# Altium schematic symbol library 常用集成电路.SchLib: 294 symbols (part 5 of 5)
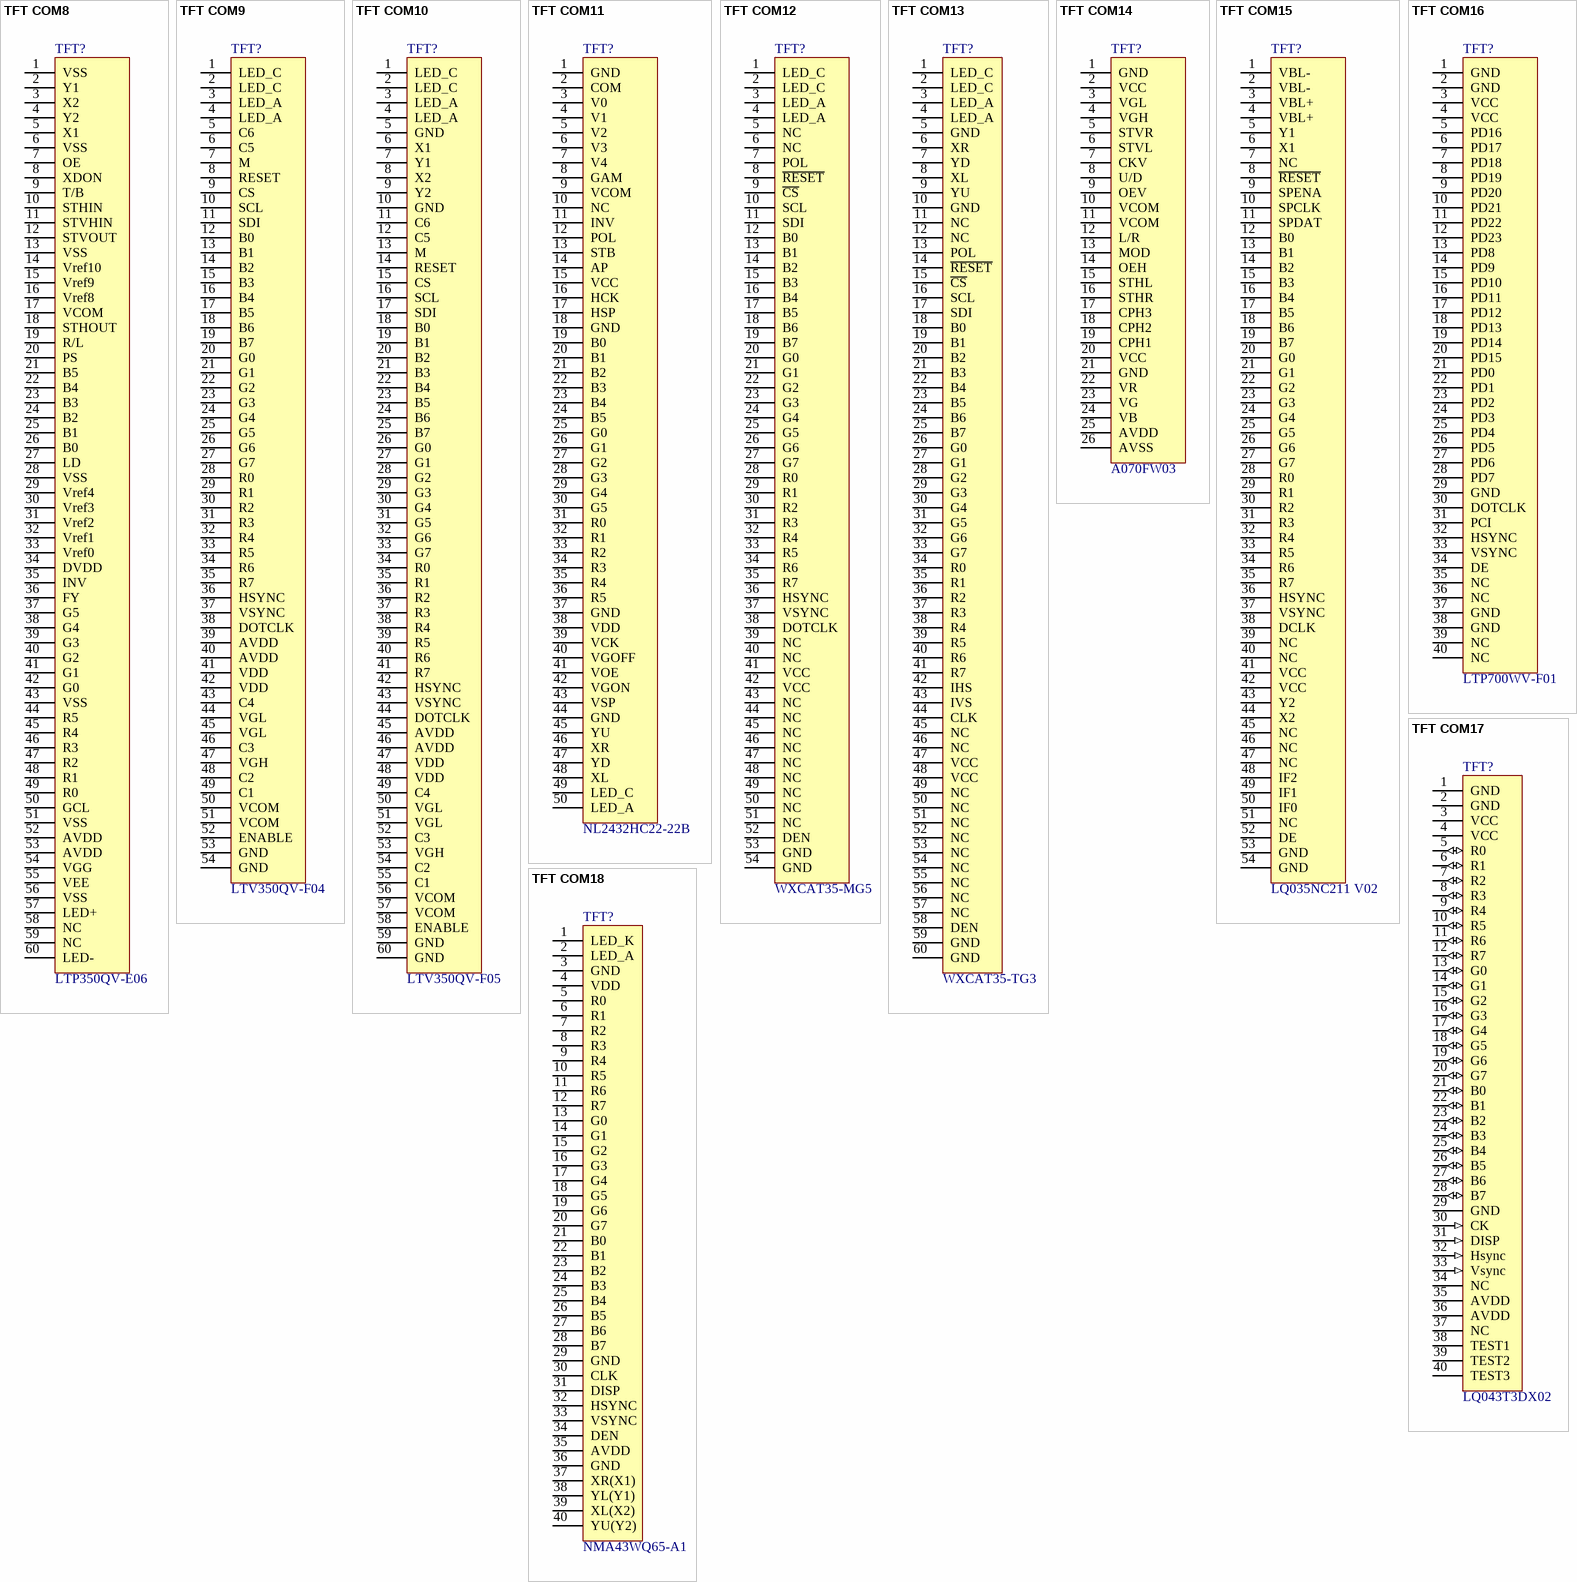
[diagram p42: symbols TFT COM8 to TFT COM18]

## TFT COM15
designator TFT?, comment LQ035NC211 V02
奇信 3.5"带触摸液晶屏
pins: 1 VBL-, 2 VBL-, 3 VBL+, 4 VBL+, 5 Y1, 6 X1, 7 NC, 8 ~{RESET}, 9 SPENA, 10 SPCLK, 11 SPDAT, 12 B0, 13 B1, 14 B2, 15 B3, 16 B4, 17 B5, 18 B6, 19 B7, 20 G0, 21 G1, 22 G2, 23 G3, 24 G4, 25 G5, 26 G6, 27 G7, 28 R0, 29 R1, 30 R2, 31 R3, 32 R4, 33 R5, 34 R6, 35 R7, 36 HSYNC, 37 VSYNC, 38 DCLK, 39 NC, 40 NC, 41 VCC, 42 VCC, 43 Y2, 44 X2, 45 NC, 46 NC, 47 NC, 48 IF2, 49 IF1, 50 IF0, 51 NC, 52 DE, 53 GND, 54 GND

## TFT COM16
designator TFT?, comment LTP700WV-F01
SAMSUND 7" 液晶屏
pins: 1 GND, 2 GND, 3 VCC, 4 VCC, 5 PD16, 6 PD17, 7 PD18, 8 PD19, 9 PD20, 10 PD21, 11 PD22, 12 PD23, 13 PD8, 14 PD9, 15 PD10, 16 PD11, 17 PD12, 18 PD13, 19 PD14, 20 PD15, 21 PD0, 22 PD1, 23 PD2, 24 PD3, 25 PD4, 26 PD5, 27 PD6, 28 PD7, 29 GND, 30 DOTCLK, 31 PCI, 32 HSYNC, 33 VSYNC, 34 DE, 35 NC, 36 NC, 37 GND, 38 GND, 39 NC, 40 NC

## TFT COM17
designator TFT?, comment LQ043T3DX02
夏普4.3" TFT真彩液晶屏. Vled<29.4V,  Vi=18mA.
footprint FFC/SM0.5-2H40 (Connector; FH12 Series; 40 Position; 0.5mm Spaced Bottom Contact)
footprint FPC/SM0.5-2H4 (LQ043)
pins: 1 GND (power) "GND(0V)", 2 GND (power) "GND(0V)", 3 VCC (power) "+2.5V Power Source", 4 VCC (power) "+2.5V Power Source", 5 R0 (io) "Red Data Signal (LSB)", 6 R1 (io) "Red Data Signal", 7 R2 (io) "Red Data Signal", 8 R3 (io) "Red Data Signal", 9 R4 (io) "Red Data Signal", 10 R5 (io) "Red Data Signal", 11 R6 (io) "Red Data Signal", 12 R7 (io) "Red Data Signal (MSB)", 13 G0 (io) "Green Data Signal (LSB)", 14 G1 (io) "Green Data Signal", 15 G2 (io) "Green Data Signal", 16 G3 (io) "Green Data Signal", 17 G4 (io) "Green Data Signal", 18 G5 (io) "Green Data Signal", 19 G6 (io) "Green Data Signal", 20 G7 (io) "Green Data Signal (MSB)", 21 B0 (io) "Blue Data Signal (LSB)", 22 B1 (io) "Blue Data Signal", 23 B2 (io) "Blue Data Signal", 24 B3 (io) "Blue Data Signal", 25 B4 (io) "Blue Data Signal", 26 B5 (io) "Blue Data Signal", 27 B6 (io) "Blue Data Signal", 28 B7 (io) "Blue Data Signal (MSB)", 29 GND (power) "GND (0V)", 30 CK (in) "Clock signal to sample each date", 31 DISP (in) "Display ON/OFF Signal", 32 Hsync (in) "Horizontal synchronizing signal", 33 Vsync (in) "Vertical synchornizing signal", 34 NC, 35 AVDD (power) "+5V Analog power source", 36 AVDD (power) "+5V Analog power source", 37 NC, 38 TEST1, 39 TEST2, 40 TEST3

## TFT COM18
designator TFT?, comment NMA43WQ65-A1
Nanovision 4.3" TFT
footprint FFC/SM0.5-2H40A (Connector; FH12 Series; 40 Position; 0.5mm Spaced Top Contact)
pins: 1 LED_K (power) "Power For LED", 2 LED_A (power) "Power For LED", 3 GND (power) "Ground", 4 VDD (power) "Power Supply(Digital:+3.0V)", 5 R0 (power) "Red Data(LSB)", 6 R1 (power) "Red Data", 7 R2 (power) "Red Data", 8 R3 (power) "Red Data", 9 R4 (power) "Red Data", 10 R5 (power) "Red Data", 11 R6 (power) "Red Data", 12 R7 (power) "Red Data(MSB)", 13 G0 (power) "Green Data(LSB)", 14 G1 (power) "Green Data", 15 G2 (power) "Green Data", 16 G3 (power) "Green Data", 17 G4 (power) "Green Data", 18 G5 (power) "Green Data", 19 G6 (power) "Green Data", 20 G7 (power) "Green Data(MSB)", 21 B0 (power) "Blue Data(LSB)", 22 B1 (power) "Blue Data", 23 B2 (power) "Blue Data", 24 B3 (power) "Blue Data", 25 B4 (power) "Blue Data", 26 B5 (power) "Blue Data", 27 B6 (power) "Blue Data", 28 B7 (power) "Blue Data(MSB)", 29 GND (power) "Ground", 30 CLK (power) "Clock", 31 DISP (power) "Display ON/OFF", 32 HSYNC (power) "Horizontal Sync", 33 VSYNC (power) "Vertical Sync", 34 DEN (power) "Data Enable", 35 AVDD (power) "Power Supply (Analog:+5V)", 36 GND (power) "Ground", 37 XR(X1) (power) "Right Side Touch Panel", 38 YL(Y1) (power) "Bottom Side Touch Panel", 39 XL(X2) (power) "Left Side Touch Panel", 40 YU(Y2) (power) "Up Side Touch Panel"

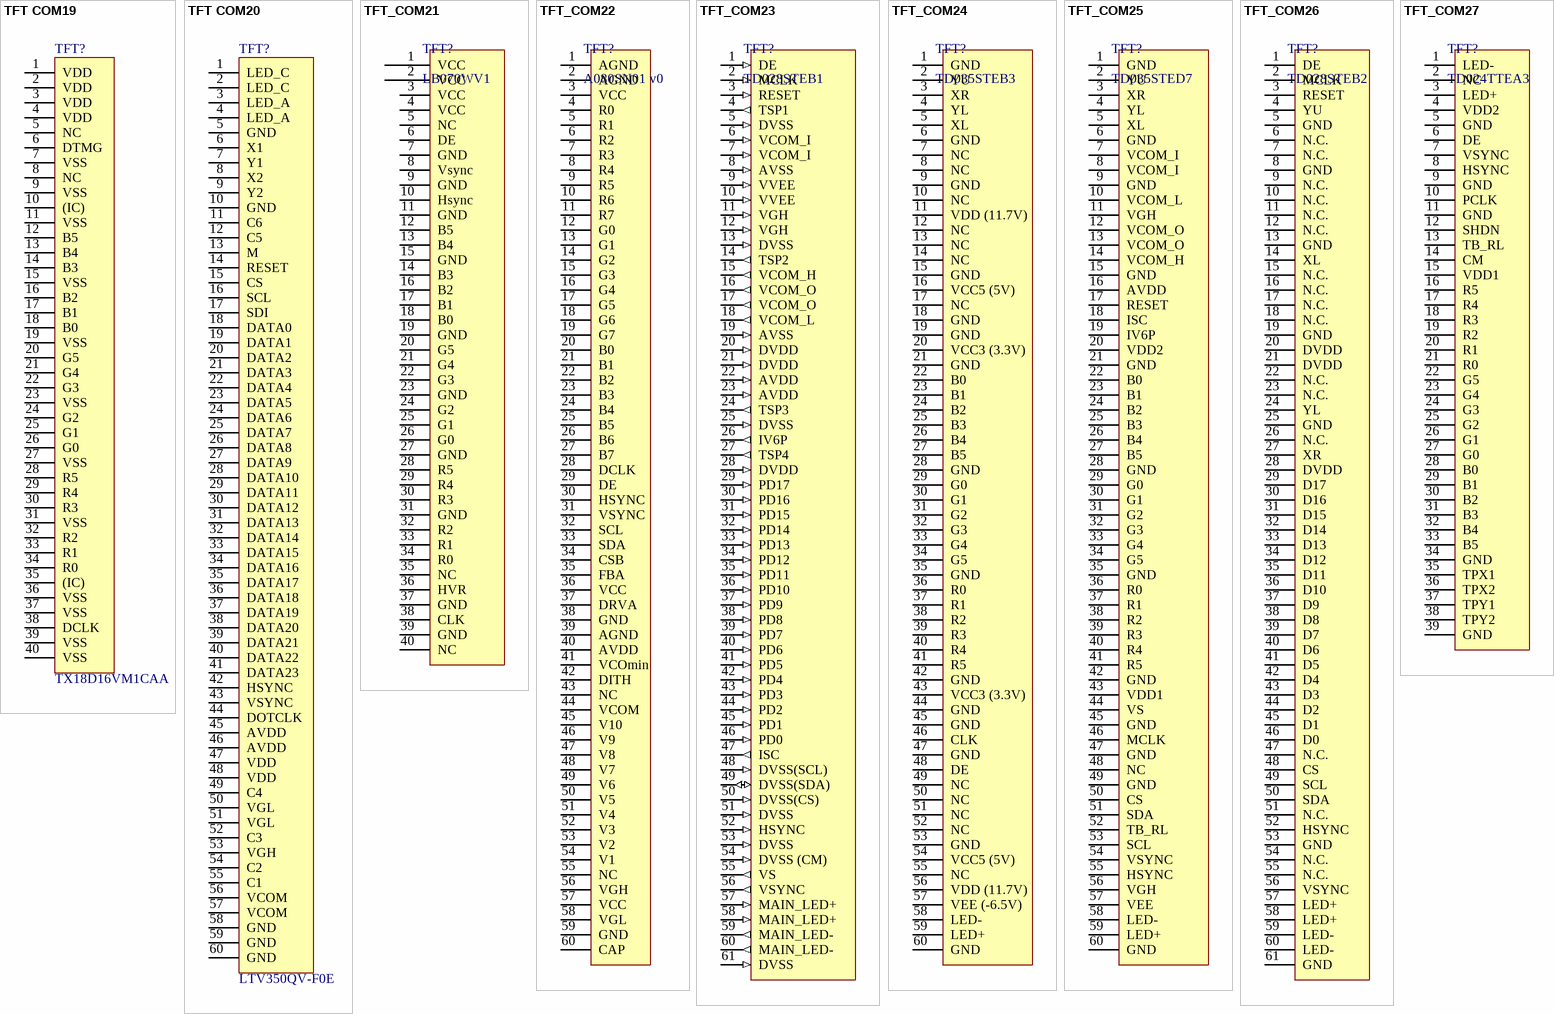
[diagram p36: symbols TFT COM19 to TFT_COM27]

## TFT COM19
designator TFT?, comment TX18D16VM1CAA
HITACHI 7"液晶屏
footprint FFC/SM0.5-2H40A (Connector; FH12 Series; 40 Position; 0.5mm Spaced Top Contact)
pins: 1 VDD (power) "Power Supply 3.3V", 2 VDD (power) "Power Supply 3.3V", 3 VDD (power) "Power Supply 3.3V", 4 VDD (power) "Power Supply 3.3V", 5 NC (power), 6 DTMG (power) "Display Timing", 7 VSS (power) "GND 0V", 8 NC (power) "Non-Connect", 9 VSS (power) "GND 0V", 10 (IC) (power), 11 VSS (power) "GND 0V", 12 B5 (power) "Blue Data", 13 B4 (power) "Blue Data", 14 B3 (power) "Blue Data", 15 VSS (power) "GND 0V", 16 B2 (power) "Blue Data", 17 B1 (power) "Blue Data", 18 B0 (power) "Blue Data", 19 VSS (power) "GND 0V", 20 G5 (power) "Green Data", 21 G4 (power) "Green Data", 22 G3 (power) "Green Data", 23 VSS (power) "GND 0V", 24 G2 (power) "Green Data", 25 G1 (power) "Green Data", 26 G0 (power) "Green Data", 27 VSS (power) "GND 0V", 28 R5 (power) "Red Data", 29 R4 (power) "Red Data", 30 R3 (power) "Red Data", 31 VSS (power) "GND 0V", 32 R2 (power) "Red Data", 33 R1 (power) "Red Data", 34 R0 (power) "Red Data", 35 (IC) (power), 36 VSS (power) "GND 0V", 37 VSS (power) "GND 0V", 38 DCLK (power) "Dot Clock", 39 VSS (power) "GND 0V", 40 VSS (power) "GND 0V"

## TFT COM20
designator TFT?, comment LTV350QV-F0E
SAMSUNG 3.5" 带触摸液晶屏
footprint FFC/SM0.5-2H60A (Connector; FH12 Series; 60 Position; 0.5mm Spaced Top Contact)
pins: 1 LED_C, 2 LED_C, 3 LED_A, 4 LED_A, 5 GND, 6 X1, 7 Y1, 8 X2, 9 Y2, 10 GND, 11 C6, 12 C5, 13 M, 14 RESET, 15 CS, 16 SCL, 17 SDI, 18 DATA0, 19 DATA1, 20 DATA2, 21 DATA3, 22 DATA4, 23 DATA5, 24 DATA6, 25 DATA7, 26 DATA8, 27 DATA9, 28 DATA10, 29 DATA11, 30 DATA12, 31 DATA13, 32 DATA14, 33 DATA15, 34 DATA16, 35 DATA17, 36 DATA18, 37 DATA19, 38 DATA20, 39 DATA21, 40 DATA22, 41 DATA23, 42 HSYNC, 43 VSYNC, 44 DOTCLK, 45 AVDD, 46 AVDD, 47 VDD, 48 VDD, 49 C4, 50 VGL, 51 VGL, 52 C3, 53 VGH, 54 C2, 55 C1, 56 VCOM, 57 VCOM, 58 GND, 59 GND, 60 GND

## TFT_COM21
designator TFT?, comment LB070WV1
LG 7"数字液晶屏
footprint FFC/SM0.5-2H40A (Connector; FH12 Series; 40 Position; 0.5mm Spaced Top Contact)
pins: 1 VCC (power) "+3.3V Power supply", 2 VCC (power) "+3.3V Power supply", 3 VCC (power) "+3.3V Power supply", 4 VCC (power) "+3.3V Power supply", 5 NC (power) "+3.3V Power supply", 6 DE (power) "data enable", 7 GND (power) "Ground", 8 Vsync (power) "Vertical Sync", 9 GND (power) "Ground", 10 Hsync (power) "Horizental Sync", 11 GND (power) "Ground", 12 B5 (power) "Blue data signal 5(MSB)", 13 B4 (power) "Blue data signal 4", 14 B3 (power) "Blue data signal 3", 15 GND (power) "Ground", 16 B2 (power) "Blue data signal 2", 17 B1 (power) "Blue data signal 1", 18 B0 (power) "Blue data signal 0", 19 GND (power) "Ground", 20 G5 (power) "Green data signal 5 (MSB)", 21 G4 (power) "Green data signal 4", 22 G3 (power) "Green data signal 3", 23 GND (power) "Ground", 24 G2 (power) "Green data signal 2", 25 G1 (power) "Green data signal 1", 26 G0 (power) "Green data signal 0", 27 GND (power) "Ground", 28 R5 (power) "Red data signal 5 (MSB)", 29 R4 (power) "Red data signal 4", 30 R3 (power) "Red data signal 3", 31 GND (power) "Ground", 32 R2 (power) "Red data signal 2", 33 R1 (power) "Red data signal 1", 34 R0 (power) "Red data signal 0", 35 NC (power), 36 HVR (power) "Horizontally and vertically inverse control signal", 37 GND (power) "Ground", 38 CLK (power) "Clock", 39 GND (power) "Ground", 40 NC (power)

## TFT_COM22
designator TFT?, comment A080SN01 v0
AUO 友达光电 8"液晶屏
footprint FFC/SM0.5-2H60A (Connector; FH12 Series; 60 Position; 0.5mm Spaced Top Contact)
pins: 1 AGND (power), 2 AGND (power), 3 VCC (power), 4 R0 (power), 5 R1 (power), 6 R2 (power), 7 R3 (power), 8 R4 (power), 9 R5 (power), 10 R6 (power), 11 R7 (power), 12 G0 (power), 13 G1 (power), 14 G2 (power), 15 G3 (power), 16 G4 (power), 17 G5 (power), 18 G6 (power), 19 G7 (power), 20 B0 (power), 21 B1 (power), 22 B2 (power), 23 B3 (power), 24 B4 (power), 25 B5 (power), 26 B6 (power), 27 B7 (power), 28 DCLK (power), 29 DE (power), 30 HSYNC (power), 31 VSYNC (power), 32 SCL (power), 33 SDA (power), 34 CSB (power), 35 FBA (power), 36 VCC (power), 37 DRVA (power), 38 GND (power), 39 AGND (power), 40 AVDD (power), 41 VCOmin (power), 42 DITH (power), 43 NC (power), 44 VCOM (power), 45 V10 (power), 46 V9 (power), 47 V8 (power), 48 V7 (power), 49 V6 (power), 50 V5 (power), 51 V4 (power), 52 V3 (power), 53 V2 (power), 54 V1 (power), 55 NC (power), 56 VGH (power), 57 VCC (power), 58 VGL (power), 59 GND (power), 60 CAP (power)

## TFT_COM23
designator TFT?, comment TD028STEB1
金物联手持设备2.8寸液晶屏
footprint FFC/SM0.3-4V61 (液晶屏座)
footprint BL310-61G31-TAH0 (东一品(日精电子), 0.3mm连接器)
footprint FPC0.3-61S-0.3HAW (FPC连接器, TD028STEB1用)
footprint FPC0.3-61S-0.3HAW-Double (1.25mm 高, FPC连接器, TD028STEB1用)
pins: 1 DE (in) "Data Enable Signal", 2 MCLK (in) "LCM Pixel Clock", 3 RESET (in) "IC Reset Signal", 4 TSP1 (out) "TSP Interface Y2", 5 DVSS (in) "Digital Ground", 6 VCOM_I (in) "VCOM Input", 7 VCOM_I (in) "VCOM Input", 8 AVSS (in) "Analog Ground", 9 VVEE (in) "Gate Off Voltage", 10 VVEE (in) "Gate Off Voltage", 11 VGH (in) "Gate On Voltage", 12 VGH (in) "Gate On Voltage", 13 DVSS (in) "Digital Ground", 14 TSP2 (out) "TSP Interface Signal X2", 15 VCOM_H (out) "Postitive Power Output for VCOM", 16 VCOM_O (out) "VCOM Output", 17 VCOM_O (out) "VCOM Output", 18 VCOM_L (out) "Negative Power Output for VCOM", 19 AVSS (in) "Analog Ground", 20 DVDD (in) "Digital Supply Power", 21 DVDD (in) "Digital Supply Power", 22 AVDD (in) "Analog Supply Power", 23 AVDD (in) "Analog Supply Power", 24 TSP3 (out) "TSP Interface Signal Y1", 25 DVSS (in) "Digital Ground", 26 IV6P (out) "Negative Voltage Output Pad", 27 TSP4 (out) "TSP Interface Signal X1", 28 DVDD (in) "Digital Supply Power", 29 PD17 (in) "R5 (Red MSB)", 30 PD16 (in) "R4", 31 PD15 (in) "R3", 32 PD14 (in) "R2", 33 PD13 (in) "R1", 34 PD12 (in) "R0 (Red LSB)", 35 PD11 (in) "G5 (Green MSB)", 36 PD10 (in) "G4", 37 PD9 (in) "G3", 38 PD8 (in) "G2", 39 PD7 (in) "G1", 40 PD6 (in) "G0 (Green LSB)", 41 PD5 (in) "B5 (Blue MSB)", 42 PD4 (in) "B4", 43 PD3 (in) "B3", 44 PD2 (in) "B2", 45 PD1 (in) "B1", 46 PD0 (in) "B0 (Blue LSB)", 47 ISC (out) "Capacitor Connection Pad", 48 DVSS(SCL) (in) "Digital Ground(Serial interface clock input)", 49 DVSS(SDA) (io) "Digital Ground(Serial interface clock input/output)", 50 DVSS(CS) (in) "Digital Ground (Serial interface chip select input)", 51 DVSS (in) "Digital Ground", 52 HSYNC (in) "Horizontal SYNC Input", 53 DVSS (in) "Digital Ground", 54 DVSS (CM) (in) "Digital Ground", 55 VS (out) "Positive Power Output for Source  Driver", 56 VSYNC (out) "Vertical SYNC Input", 57 MAIN_LED+ (in) "LED Power (Anode)", 58 MAIN_LED+ (in) "LED Power (Anode)", 59 MAIN_LED- (out) "LED Power (Cathode)", 60 MAIN_LED- (out) "LED Power (Cathode)", 61 DVSS (in) "Digital Ground"

## TFT_COM24
designator TFT?, comment TD035STEB3
金物联PDA液晶屏
footprint AXK5F60345YJ (Panasonlc Electric Works, ltd)
pins: 1 GND "裸焊盘", 2 YU "裸焊盘", 3 XR "裸焊盘", 4 YL "裸焊盘", 5 XL "裸焊盘", 6 GND "裸焊盘", 7 NC "裸焊盘", 8 NC "裸焊盘", 9 GND "裸焊盘", 10 NC "裸焊盘", 11 VDD (11.7V) "裸焊盘", 12 NC "裸焊盘", 13 NC "裸焊盘", 14 NC "裸焊盘", 15 GND "裸焊盘", 16 VCC5 (5V), 17 NC "裸焊盘", 18 GND "裸焊盘", 19 GND "裸焊盘", 20 VCC3 (3.3V) "裸焊盘", 21 GND "裸焊盘", 22 B0 "裸焊盘", 23 B1 "裸焊盘", 24 B2 "裸焊盘", 25 B3 "裸焊盘", 26 B4 "裸焊盘", 27 B5 "裸焊盘", 28 GND "裸焊盘", 29 G0 "裸焊盘", 30 G1 "裸焊盘", 31 G2 "裸焊盘", 32 G3 "裸焊盘", 33 G4 "裸焊盘", 34 G5 "裸焊盘", 35 GND "裸焊盘", 36 R0 "裸焊盘", 37 R1 "裸焊盘", 38 R2 "裸焊盘", 39 R3 "裸焊盘", 40 R4 "裸焊盘", 41 R5 "裸焊盘", 42 GND "裸焊盘", 43 VCC3 (3.3V) "裸焊盘", 44 GND "裸焊盘", 45 GND "裸焊盘", 46 CLK "裸焊盘", 47 GND "裸焊盘", 48 DE "裸焊盘", 49 NC "裸焊盘", 50 NC "裸焊盘", 51 NC "裸焊盘", 52 NC "裸焊盘", 53 GND "裸焊盘", 54 VCC5 (5V) "裸焊盘", 55 NC "裸焊盘", 56 VDD (11.7V) "裸焊盘", 57 VEE (-6.5V) "裸焊盘", 58 LED- "裸焊盘", 59 LED+ "裸焊盘", 60 GND "裸焊盘"

## TFT_COM25
designator TFT?, comment TD035STED7
金物联PDA液晶屏, TD035STED7
footprint AXK5F60345YJ (Panasonlc Electric Works, ltd)
pins: 1 GND "Ground", 2 YU "Touch Panel Upper Side", 3 XR "Touch Panel Right Side", 4 YL "Touch Panel Lower Side", 5 XL "Touch Panel Left Side", 6 GND "Ground", 7 VCOM_I "VCOM Signal Input for LCD Panel", 8 VCOM_I "VCOM Signal Input for LCD Panel", 9 GND "Ground", 10 VCOM_L "Negative power output for VCOM", 11 VGH "Positive voltage Positive voltage in pin for Level Shifter I/O", 12 VCOM_O "VCOM Signal of IC Output", 13 VCOM_O "VCOM Signal of IC Output", 14 VCOM_H "Positive power output for VCOM", 15 GND "Ground", 16 AVDD "5V Input (Source driver)", 17 RESET "Reset signal", 18 ISC "NA", 19 IV6P "NA", 20 VDD2 "2.8V Input (Power supply for booster)", 21 GND "Ground", 22 B0 "Data Bit Input", 23 B1 "Data Bit Input", 24 B2 "Data Bit Input", 25 B3 "Data Bit Input", 26 B4 "Data Bit Input", 27 B5 "Data Bit Input", 28 GND "Ground", 29 G0 "Data Bit Input", 30 G1 "Data Bit Input", 31 G2 "Data Bit Input", 32 G3 "Data Bit Input", 33 G4 "Data Bit Input", 34 G5 "Data Bit Input", 35 GND "Ground", 36 R0 "Data Bit Input", 37 R1 "Data Bit Input", 38 R2 "Data Bit Input", 39 R3 "Data Bit Input", 40 R4 "Data Bit Input", 41 R5 "Data Bit Input", 42 GND "Ground", 43 VDD1 "2.8V Input (Logic Supply Voltage)", 44 VS "Positive power output for source driver", 45 GND "Ground", 46 MCLK "Clock signal", 47 GND "Ground", 48 NC "裸焊盘", 49 GND "Ground", 50 CS "Serial interface chip select", 51 SDA "Serial interface data input/output", 52 TB_RL "Gate shift direction select and Source shift direction select", 53 SCL "Serial interface clock input", 54 VSYNC "Vertical SYNC input", 55 HSYNC "Horizontal SYNC input", 56 VGH "Positive voltalge Positive voltage in pin for Level Shifter I/O", 57 VEE "Input Voltage for gate off (-5.5V)", 58 LED- "Cathode of LED", 59 LED+ "Anode of LED", 60 GND "Ground"

## TFT_COM26
designator TFT?, comment TD028STEB2
金物联手持机液晶屏
footprint FPC0.3-61S-0.3HAW-Double (1.25mm 高, FPC连接器, TD028STEB1用)
pins: 1 DE, 2 MCLK, 3 RESET, 4 YU, 5 GND, 6 N.C., 7 N.C., 8 GND, 9 N.C., 10 N.C., 11 N.C., 12 N.C., 13 GND, 14 XL, 15 N.C., 16 N.C., 17 N.C., 18 N.C., 19 GND, 20 DVDD, 21 DVDD, 22 N.C., 23 N.C., 24 YL, 25 GND, 26 N.C., 27 XR, 28 DVDD, 29 D17, 30 D16, 31 D15, 32 D14, 33 D13, 34 D12, 35 D11, 36 D10, 37 D9, 38 D8, 39 D7, 40 D6, 41 D5, 42 D4, 43 D3, 44 D2, 45 D1, 46 D0, 47 N.C., 48 CS, 49 SCL, 50 SDA, 51 N.C., 52 HSYNC, 53 GND, 54 N.C., 55 N.C., 56 VSYNC, 57 LED+, 58 LED+, 59 LED-, 60 LED-, 61 GND

## TFT_COM27
designator TFT?, comment TD024TTEA3
金物联2.4寸统宝液晶屏
footprint FF12-39A-R11B (统宝2.4寸液晶屏座，TD024TTEA3)
pins: 1 LED- "LED Power Supply (-)", 2 NC "Dummy", 3 LED+ "LED Power Supply (+)", 4 VDD2 "Power supply for DC/DC (+2.8V)", 5 GND "Ground", 6 DE "Data enable", 7 VSYNC "Vertical Synchronization", 8 HSYNC "Horizontal Synchronization", 9 GND "Ground", 10 PCLK "Clock signal", 11 GND "Ground", 12 SHDN "Auto power on/off sequence enable input", 13 TB_RL "Source&Data shift direction select", 14 CM "Display mode selection input.  CM=L: Full display mode (65k/262k color),  CM=H: Partial display mode (8 color)", 15 VDD1 "Power supply for Logic (+2.8V)", 16 R5 "Video Data Red 5(MSB)", 17 R4 "Video Data Red 4", 18 R3 "Video Data Red 3", 19 R2 "Video Data Red 2", 20 R1 "Video Data Red 1", 21 R0 "Video Data Red 0 (LSB)", 22 G5 "Video data green 5 (MSB)", 23 G4 "Video data green 4", 24 G3 "Video data green 3", 25 G2 "Video data green 2", 26 G1 "Video data green 1", 27 G0 "Video data green 0(LSB)", 28 B0 "Video data blue 0 (LSB)", 29 B1 "Video data blue 1", 30 B2 "Video data blue 2", 31 B3 "Video data blue 3", 32 B4 "Video data blue 4", 33 B5 "Video data blue 5(MSB)", 34 GND "Ground", 35 TPX1 "Touch Panel Right Side Pin", 36 TPX2 "Touch Panel Left Side Pin", 37 TPY1 "Touch Panel Upper Side Pin", 38 TPY2 "Touch Panel Lower Side Pin", 39 GND "Ground"

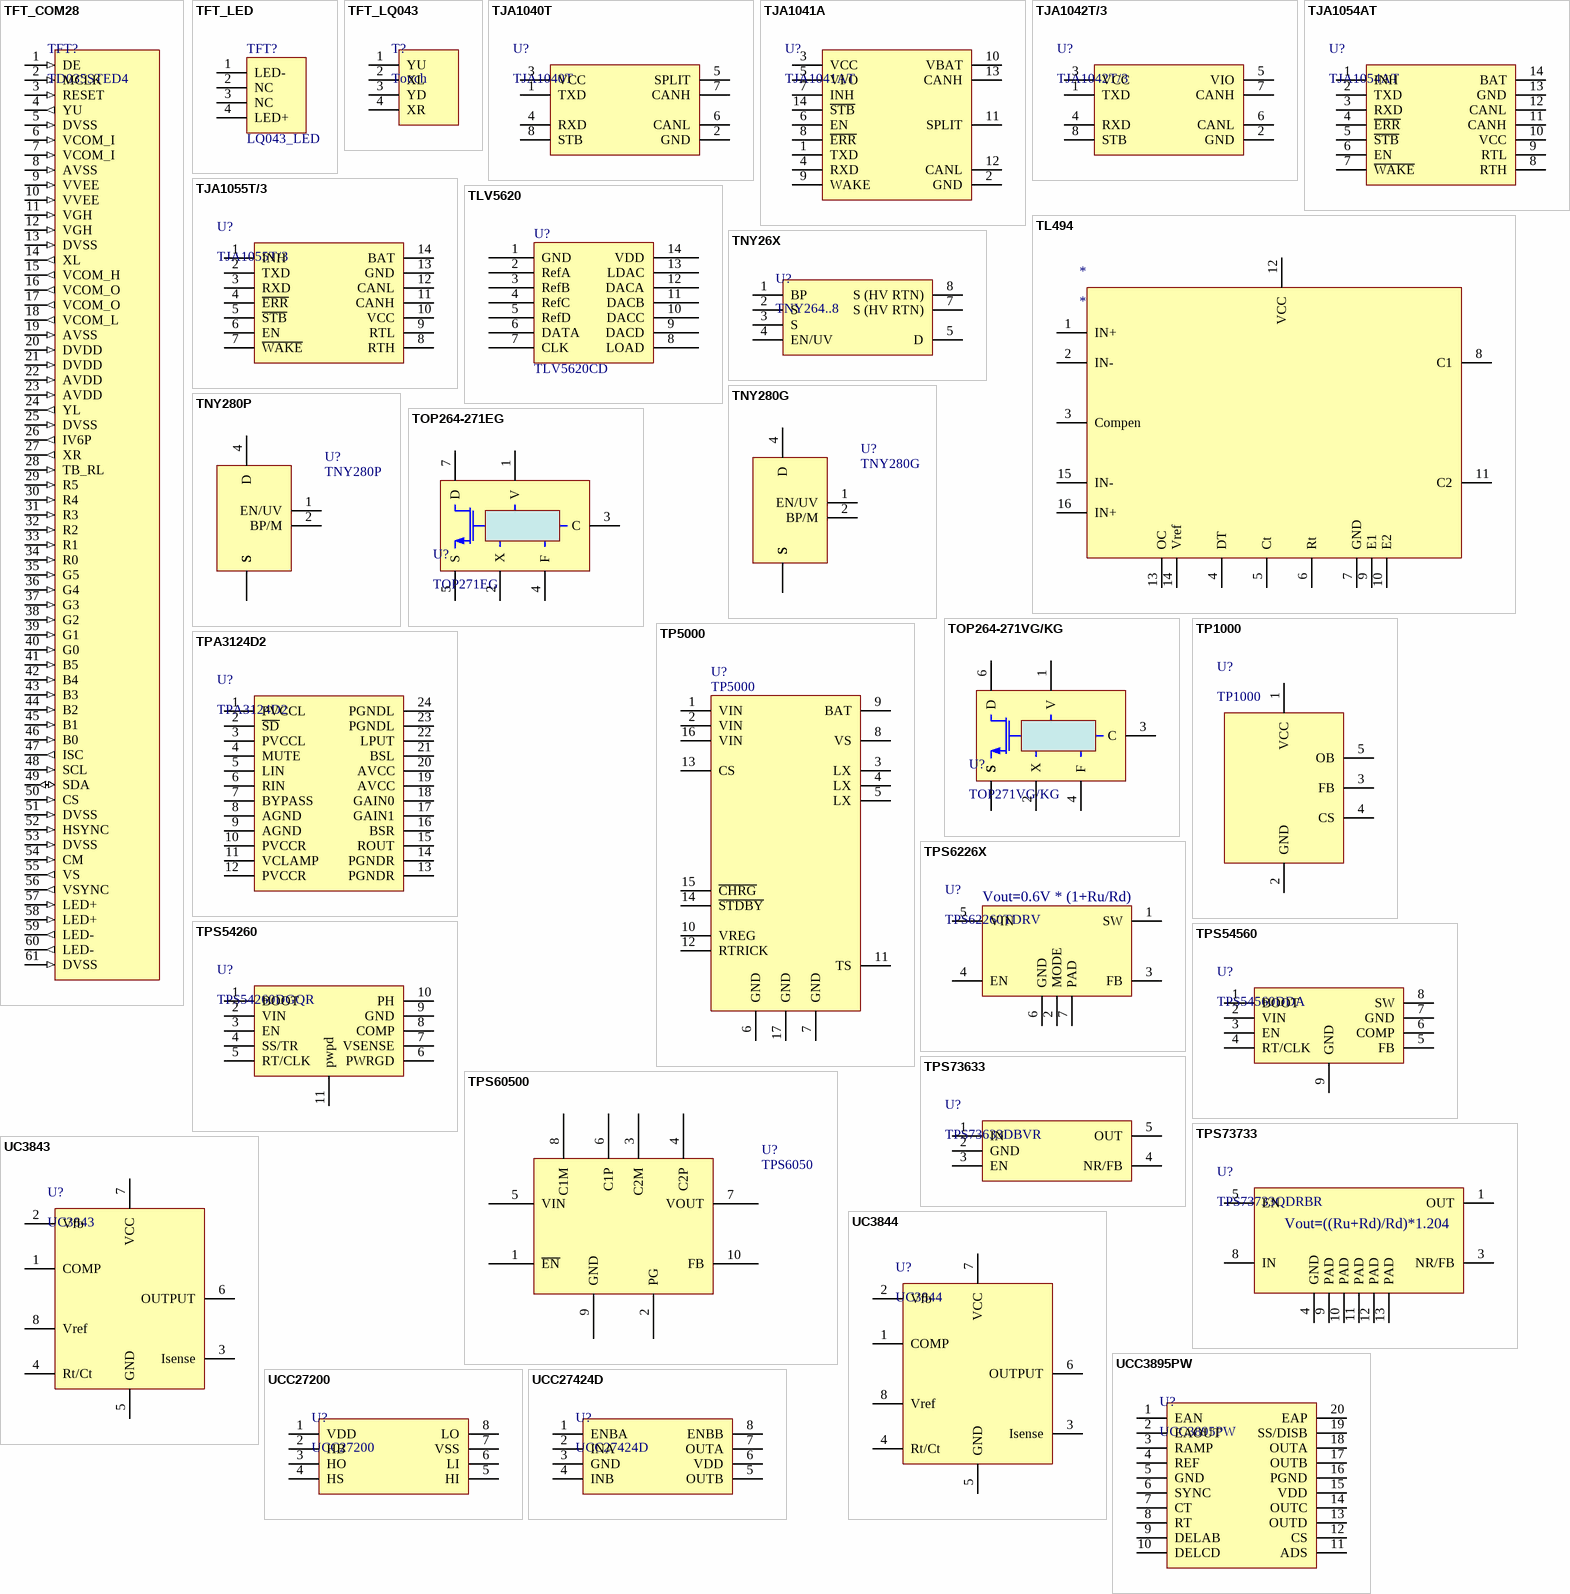
[diagram p37: symbols TFT_COM28 to UCC27424D]

## TFT_COM28
designator TFT?, comment TD035STED4
统宝3.5寸液晶屏
footprint FFC/SM0.3-4V61 (液晶屏座)
footprint BL310-61G31-TAH0 (东一品(日精电子), 0.3mm连接器)
footprint FPC0.3-61S-0.3HAW (FPC连接器, TD028STEB1用)
footprint FPC0.3-61S-0.3HAW-Double (1.25mm 高, FPC连接器, TD028STEB1用)
pins: 1 DE (in) "Data Enable Signal", 2 MCLK (in) "LCM Pixel Clock", 3 RESET (in) "IC Reset Signal", 4 YU (out) "TSP Interface Y2", 5 DVSS (in) "Digital Ground", 6 VCOM_I (in) "VCOM Input", 7 VCOM_I (in) "VCOM Input", 8 AVSS (in) "Analog Ground", 9 VVEE (in) "Gate Off Voltage", 10 VVEE (in) "Gate Off Voltage", 11 VGH (in) "Gate On Voltage", 12 VGH (in) "Gate On Voltage", 13 DVSS (in) "Digital Ground", 14 XL (out) "TSP Interface Signal X2", 15 VCOM_H (out) "Postitive Power Output for VCOM", 16 VCOM_O (out) "VCOM Output", 17 VCOM_O (out) "VCOM Output", 18 VCOM_L (out) "Negative Power Output for VCOM", 19 AVSS (in) "Analog Ground", 20 DVDD (in) "Digital Supply Power", 21 DVDD (in) "Digital Supply Power", 22 AVDD (in) "Analog Supply Power", 23 AVDD (in) "Analog Supply Power", 24 YL (out) "TSP Interface Signal Y1", 25 DVSS (in) "Digital Ground", 26 IV6P (out) "Negative Voltage Output Pad", 27 XR (out) "TSP Interface Signal X1", 28 TB_RL (in) "Digital Supply Power", 29 R5 (in) "R5 (Red MSB)", 30 R4 (in), 31 R3 (in), 32 R2 (in), 33 R1 (in), 34 R0 (in) "R0 (Red LSB)", 35 G5 (in) "G5 (Green MSB)", 36 G4 (in), 37 G3 (in), 38 G2 (in), 39 G1 (in), 40 G0 (in) "G0 (Green LSB)", 41 B5 (in) "B5 (Blue MSB)", 42 B4 (in), 43 B3 (in), 44 B2 (in), 45 B1 (in), 46 B0 (in) "B0 (Blue LSB)", 47 ISC (out) "Capacitor Connection Pad", 48 SCL (in) "Digital Ground(Serial interface clock input)", 49 SDA (io) "Digital Ground(Serial interface clock input/output)", 50 CS (in) "Digital Ground (Serial interface chip select input)", 51 DVSS (in) "Digital Ground", 52 HSYNC (in) "Horizontal SYNC Input", 53 DVSS (in) "Digital Ground", 54 CM (in) "Digital Ground", 55 VS (out) "Positive Power Output for Source  Driver", 56 VSYNC (out) "Vertical SYNC Input", 57 LED+ (in) "LED Power (Anode)", 58 LED+ (in) "LED Power (Anode)", 59 LED- (out) "LED Power (Cathode)", 60 LED- (out) "LED Power (Cathode)", 61 DVSS (in) "Digital Ground"

## TFT_LED
designator TFT?, comment LQ043_LED
SHARP LQ043_LED COM
footprint FPC/SM0.5-2H4 (LQ043)
pins: 1 LED-, 2 NC, 3 NC, 4 LED+

## TFT_LQ043
designator T?, comment Touch
SHARP LQ043
footprint FFC/SM1.0-2H4 (Connector; FH12 Series; 4 Position; 1.0mm Spaced Bottom Eccentric Contact)
pins: 1 YU (power), 2 XL (power), 3 YD (power), 4 XR (power)

## TJA1040T
designator U?
高速CAN
footprint SOIC127P600-8AN (SOIC, 8-Leads, Body 4.9x3.9mm, Pitch 1.27mm, IPC Medium Density)
pins: 1 TXD, 2 GND, 3 VCC, 4 RXD, 5 SPLIT, 6 CANL, 7 CANH, 8 STB

## TJA1041A
designator U?, comment TJA1041AT
高速CAN
footprint SOIC127P600-14AN (SOIC, 14-Leads, Body 8.6x3.9mm, Pitch 1.27mm, IPC Medium Density)
pins: 1 TXD, 2 GND, 3 VCC, 4 RXD, 5 VI/O, 6 EN, 7 INH, 8 ~{ERR}, 9 WAKE, 10 VBAT, 11 SPLIT, 12 CANL, 13 CANH, 14 ~{STB}

## TJA1042T/3
designator U?
高速CAN
footprint SOIC127P600-8AN (SOIC, 8-Leads, Body 4.9x3.9mm, Pitch 1.27mm, IPC Medium Density)
pins: 1 TXD, 2 GND, 3 VCC, 4 RXD, 5 VIO, 6 CANL, 7 CANH, 8 STB

## TJA1054AT
designator U?
Fault-tolerant CAN transceiver
footprint SOIC127P600-14AN (SOIC, 14-Leads, Body 8.6x3.9mm, Pitch 1.27mm, IPC Medium Density)
pins: 1 INH, 2 TXD, 3 RXD, 4 ~{ERR}, 5 ~{STB}, 6 EN, 7 ~{WAKE}, 8 RTH, 9 RTL, 10 VCC, 11 CANH, 12 CANL, 13 GND, 14 BAT

## TJA1055T/3
designator U?
高速CAN
footprint SOIC127P600-14AN (SOIC, 14-Leads, Body 8.6x3.9mm, Pitch 1.27mm, IPC Medium Density)
pins: 1 INH, 2 TXD, 3 RXD, 4 ~{ERR}, 5 ~{STB}, 6 EN, 7 ~{WAKE}, 8 RTH, 9 RTL, 10 VCC, 11 CANH, 12 CANL, 13 GND, 14 BAT

## TL494
designator *
pins: 1 IN+, 2 IN-, 3 Compen, 4 DT, 5 Ct, 6 Rt, 7 GND, 8 C1, 9 E1, 10 E2, 11 C2, 12 VCC, 13 OC, 14 Vref, 15 IN-, 16 IN+

## TLV5620
designator U?, comment TLV5620CD
串行4通道DAC
footprint D014_M (14-Pin Small Outline Integrated Circuit 1.27 mm Pitch, IPC Low Density)
pins: 1 GND, 2 RefA, 3 RefB, 4 RefC, 5 RefD, 6 DATA, 7 CLK, 8 LOAD, 9 DACD, 10 DACC, 11 DACB, 12 DACA, 13 LDAC, 14 VDD

## TNY26X
designator U?, comment TNY264..8
开关电源IC
footprint SMD-8B (Footprint not found)
pins: 1 BP, 2 S, 3 S, 4 EN/UV, 5 D, 7 S (HV RTN), 8 S (HV RTN)

## TNY280G
designator U?
PWM控制器
footprint SMD-7C (TNY280G)
pins: 1 EN/UV, 2 BP/M, 4 D, 5 S, 6 S, 7 S, 8 S

## TNY280P
designator U?
PWM控制器
footprint DIP-7 (DIP; 8 Leads; Row Spacing 7.62 mm; Pitch 2.54 mm)
pins: 1 EN/UV, 2 BP/M, 4 D, 5 S, 6 S, 7 S, 8 S

## TOP264-271EG
designator U?, comment TOP271EG
PWM控制器
footprint eSIP-7C (TOP264-271封装)
footprint eDIP-12B (Footprint not found)
pins: 1 V, 2 X, 3 C, 4 F, 5 S, 7 D

## TOP264-271VG/KG
designator U?, comment TOP271VG/KG
PWM控制器
footprint eDIP-12B (Footprint not found)
footprint eSOP-12B (Footprint not found)
pins: 1 V, 2 X, 3 C, 4 F, 6 D, 7 S, 8 S, 9 S, 10 S, 11 S, 12 S

## TP1000
designator U?
电源IC
footprint SOT23-5 (SOT-23/SC-74A; 5 Leads; Body 3 x 3 mm, inc. leads (LxW max))
pins: 1 VCC, 2 GND, 3 FB, 4 CS, 5 OB

## TP5000
designator U?
footprint QFN65P400X400-16VAM (16-Pin Plastic Quad Flat No-Lead 0.65 mm Pitch)
pins: 1 VIN, 2 VIN, 3 LX, 4 LX, 5 LX, 6 GND, 7 GND, 8 VS, 9 BAT, 10 VREG, 11 TS, 12 RTRICK, 13 CS, 14 ~{STDBY}, 15 ~{CHRG}, 16 VIN, 17 GND

## TPA3124D2
designator U?
双声道D类功放
footprint HTSOP65P640-24AN (TSOP, 24-Leads, Body 7.8x4.4mm, Pitch 0.65mm, IPC Medium Density)
pins: 1 PVCCL, 2 ~{SD}, 3 PVCCL, 4 MUTE, 5 LIN, 6 RIN, 7 BYPASS, 8 AGND, 9 AGND, 10 PVCCR, 11 VCLAMP, 12 PVCCR, 13 PGNDR, 14 PGNDR, 15 ROUT, 16 BSR, 17 GAIN1, 18 GAIN0, 19 AVCC, 20 AVCC, 21 BSL, 22 LPUT, 23 PGNDL, 24 PGNDL, EP GND hidden to GND

## TPS6226X
designator U?, comment TPS62260TDRV
0.6A 2.25M  车规级 开关式稳压器
footprint PSON65P200X200X80-7V (PSON, 6-Leads, Body 2.0x2.0 mm, Pitch 0.65mm, NSC Recommended (SC-70 Land))
pins: 1 SW, 2 MODE, 3 FB, 4 EN, 5 VIN, 6 GND, 7 PAD
text: Vout=0.6V * (1+Ru/Rd)

## TPS54260
designator U?, comment TPS54260DGQR
3V5~60V 2.5A 车规级 开关式稳压器
footprint DGQ50P-10 (Footprint not found)
pins: 1 BOOT, 2 VIN, 3 EN, 4 SS/TR, 5 RT/CLK, 6 PWRGD, 7 VSENSE, 8 COMP, 9 GND, 10 PH, 11 pwpd

## TPS54560
designator U?, comment TPS54560DDA
4V5~60V,5 A 车规级 开关式稳压器
footprint SOIC127P600-8DL (8-Pin Small Outline Integrated Circuit 1.27 mm Pitch)
pins: 1 BOOT, 2 VIN, 3 EN, 4 RT/CLK, 5 FB, 6 COMP, 7 GND, 8 SW, 9 GND hidden to GND, 9 GND

## TPS60500
designator U?, comment TPS6050
1.2V稳压电源
footprint TSSOP50P490-10AN (TSSOP, 10-Leads, Body 3x3mm, Pitch 0.5mm, IPC Medium Density)
pins: 1 ~{EN} (power), 2 PG (power), 3 C2M (power), 4 C2P (power), 5 VIN (power), 6 C1P (power), 7 VOUT (power), 8 C1M (power), 9 GND (power), 10 FB (power)

## TPS73633
designator U?, comment TPS73633DBVR
小于或等于1.2V稳压器
footprint SOT23-5 (SOT-23/SC-74A; 5 Leads; Body 3 x 3 mm, inc. leads (LxW max))
pins: 1 IN, 2 GND, 3 EN, 4 NR/FB, 5 OUT

## TPS73733
designator U?, comment TPS73733QDRBR
1A LDO稳压器
footprint DRB-N8 (Footprint not found)
pins: 1 OUT, 2 NC hidden, 3 NR/FB, 4 GND, 5 EN, 6 NC hidden, 7 NC hidden, 8 IN, 9 PAD, 10 PAD, 11 PAD, 12 PAD, 13 PAD
text: Vout=((Ru+Rd)/Rd)*1.204

## UC3843
designator U?
PWM控制器
footprint 751-02_N (SOIC, 8-Leads, Body 4.9x3.9mm, Pitch 1.27mm, IPC Medium Density)
footprint D008_N (8-Pin Small Outline Integrated Circuit 1.27 mm Pitch, IPC Medium Density)
footprint DIP-8 (DIP; 8 Leads; Row Spacing 7.62 mm; Pitch 2.54 mm)
pins: 1 COMP, 2 Vfb, 3 Isense, 4 Rt/Ct, 5 GND, 6 OUTPUT, 7 VCC, 8 Vref

## UC3844
designator U?
PWM控制器
footprint 751-02_N (SOIC, 8-Leads, Body 4.9x3.9mm, Pitch 1.27mm, IPC Medium Density)
footprint D008_N (8-Pin Small Outline Integrated Circuit 1.27 mm Pitch, IPC Medium Density)
footprint DIP-8 (DIP; 8 Leads; Row Spacing 7.62 mm; Pitch 2.54 mm)
pins: 1 COMP, 2 Vfb, 3 Isense, 4 Rt/Ct, 5 GND, 6 OUTPUT, 7 VCC, 8 Vref

## UCC3895PW
designator U?
PWM控制器
footprint TSOP65P640-20AM (TSOP, 20-Leads, Body 6.5x4.4mm, Pitch 0.65mm, IPC Low Density)
footprint TSOP65P640-20BM (TSOP, 20-Leads, Body 6.5x4.4mm, Pitch 0.65mm, IPC Low Density)
footprint TSOP65P640-20AN (TSOP, 20-Leads, Body 6.5x4.4mm, Pitch 0.65mm, IPC Medium Density)
pins: 1 EAN, 2 EAOUT, 3 RAMP, 4 REF, 5 GND, 6 SYNC, 7 CT, 8 RT, 9 DELAB, 10 DELCD, 11 ADS, 12 CS, 13 OUTD, 14 OUTC, 15 VDD, 16 PGND, 17 OUTB, 18 OUTA, 19 SS/DISB, 20 EAP

## UCC27200
designator U?
CMOS门极驱动
footprint SOIC127P600-8CN (SOIC, 8-Leads, Body 4.9x3.9mm, Pitch 1.27mm, IPC Medium Density)
pins: 1 VDD, 2 HB, 3 HO, 4 HS, 5 HI, 6 LI, 7 VSS, 8 LO

## UCC27424D
designator U?
CMOS门极驱动
footprint SOIC127P600-8CN (SOIC, 8-Leads, Body 4.9x3.9mm, Pitch 1.27mm, IPC Medium Density)
pins: 1 ENBA, 2 INA, 3 GND, 4 INB, 5 OUTB, 6 VDD, 7 OUTA, 8 ENBB

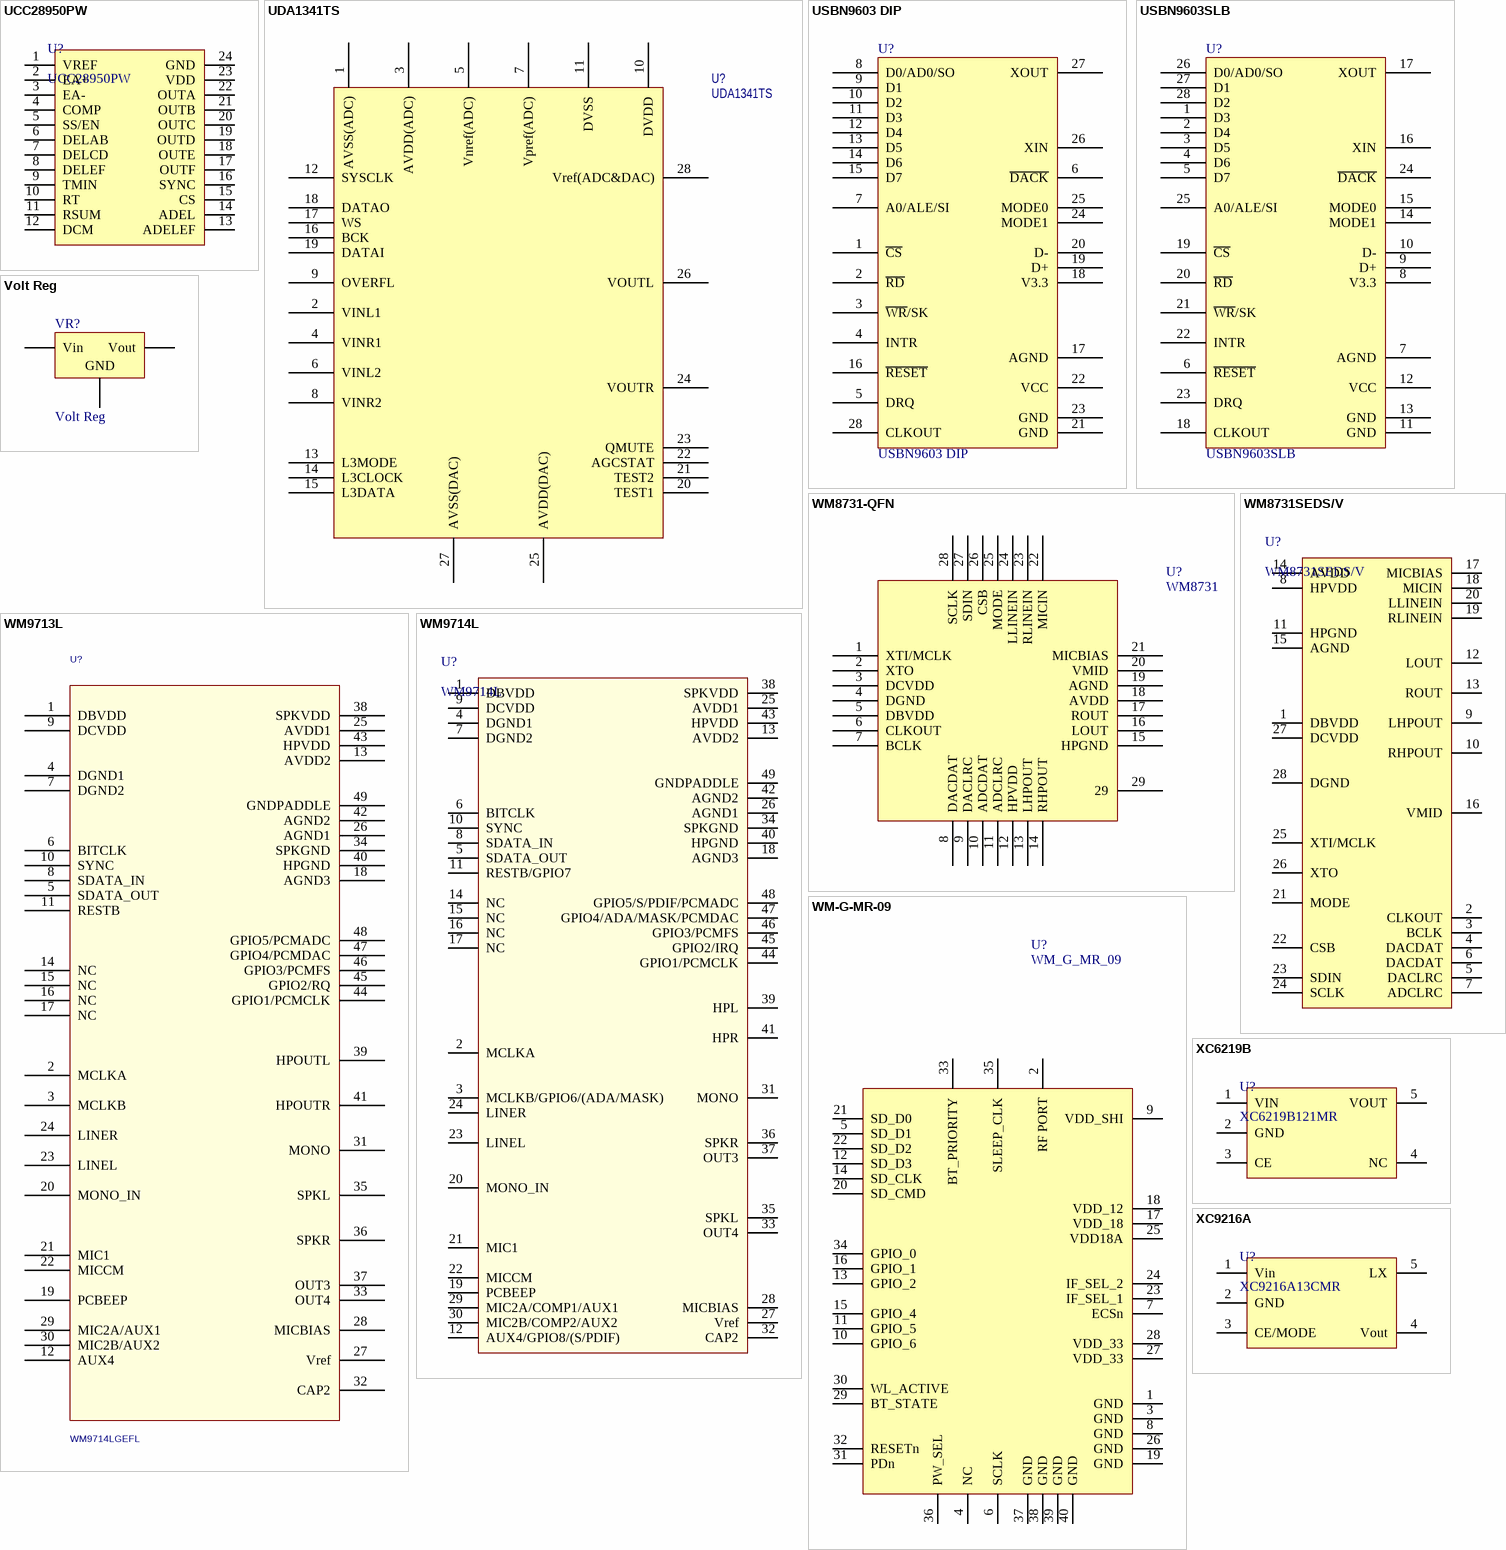
[diagram p38: symbols UCC28950PW to XC9216A]

## UCC28950PW
designator U?
全桥开关电源驱动
footprint TSOP65P640-24AL (Footprint not found)
footprint TSOP65P640-24AM (TSOP, 24-Leads, Body 7.8x4.4mm, Pitch 0.65mm, IPC Low Density)
footprint TSOP65P640-24AN (TSOP, 24-Leads, Body 7.8x4.4mm, Pitch 0.65mm, IPC Medium Density)
pins: 1 VREF, 2 EA+, 3 EA-, 4 COMP, 5 SS/EN, 6 DELAB, 7 DELCD, 8 DELEF, 9 TMIN, 10 RT, 11 RSUM, 12 DCM, 13 ADELEF, 14 ADEL, 15 CS, 16 SYNC, 17 OUTF, 18 OUTE, 19 OUTD, 20 OUTC, 21 OUTB, 22 OUTA, 23 VDD, 24 GND

## UDA1341TS
designator U?
音频解码; Text Field1: 160; Text Field2: 170
footprint SOP65P810-28N (SOP, 28-Leads, Body 9.7x6.1mm, Pitch 0.65mm, IPC Medium Density)
pins: 1 AVSS(ADC), 2 VINL1, 3 AVDD(ADC), 4 VINR1, 5 Vnref(ADC), 6 VINL2, 7 Vpref(ADC), 8 VINR2, 9 OVERFL, 10 DVDD, 11 DVSS, 12 SYSCLK, 13 L3MODE, 14 L3CLOCK, 15 L3DATA, 16 BCK, 17 WS, 18 DATAO, 19 DATAI, 20 TEST1, 21 TEST2, 22 AGCSTAT, 23 QMUTE, 24 VOUTR, 25 AVDD(DAC), 26 VOUTL, 27 AVSS(DAC), 28 Vref(ADC&DAC)

## USBN9603 DIP
designator U?
pins: 1 ~{CS}, 2 ~{RD}, 3 ~{WR}/SK, 4 INTR, 5 DRQ, 6 ~{DACK}, 7 A0/ALE/SI, 8 D0/AD0/SO, 9 D1, 10 D2, 11 D3, 12 D4, 13 D5, 14 D6, 15 D7, 16 ~{RESET}, 17 AGND, 18 V3.3, 19 D+, 20 D-, 21 GND, 22 VCC, 23 GND, 24 MODE1, 25 MODE0, 26 XIN, 27 XOUT, 28 CLKOUT

## USBN9603SLB
designator U?
footprint SLB28AA (Footprint not found)
pins: 1 D3, 2 D4, 3 D5, 4 D6, 5 D7, 6 ~{RESET}, 7 AGND, 8 V3.3, 9 D+, 10 D-, 11 GND, 12 VCC, 13 GND, 14 MODE1, 15 MODE0, 16 XIN, 17 XOUT, 18 CLKOUT, 19 ~{CS}, 20 ~{RD}, 21 ~{WR}/SK, 22 INTR, 23 DRQ, 24 ~{DACK}, 25 A0/ALE/SI, 26 D0/AD0/SO, 27 D1, 28 D2

## Volt Reg
designator VR?
LDO稳压器; Published: 24-Mar-1999; LatestRevisionDate: 17-Jul-2002; LatestRevisionNote: Re-released for DXP Platform.; PackageReference: D2PAK; Publisher: Altium Limited; Code_JEDEC: SMD-220
footprint D2PAK (D2-PAK/TO-263-AB; 3 Leads (1 Cropped); Body 15.5 (inc. leads) x 10.5 mm (LxW max))
pins: 1 Vin, 2 GND, 3 Vout

## WM8731-QFN
designator U?, comment WM8731
footprint QFN50P500X500-28VBM (28-Pin Plastic Quad Flat No-Lead 0.5 mm Pitch)
pins: 1 XTI/MCLK, 2 XTO, 3 DCVDD, 4 DGND, 5 DBVDD, 6 CLKOUT, 7 BCLK, 8 DACDAT, 9 DACLRC, 10 ADCDAT, 11 ADCLRC, 12 HPVDD, 13 LHPOUT, 14 RHPOUT, 15 HPGND, 16 LOUT, 17 ROUT, 18 AVDD, 19 AGND, 20 VMID, 21 MICBIAS, 22 MICIN, 23 RLINEIN, 24 LLINEIN, 25 MODE, 26 CSB, 27 SDIN, 28 SCLK, 29

## WM8731SEDS/V
designator U?
音频解码IC
footprint SOP65P780-28BN (Footprint not found)
pins: 1 DBVDD, 2 CLKOUT, 3 BCLK, 4 DACDAT, 5 DACLRC, 6 DACDAT, 7 ADCLRC, 8 HPVDD, 9 LHPOUT, 10 RHPOUT, 11 HPGND, 12 LOUT, 13 ROUT, 14 AVDD, 15 AGND, 16 VMID, 17 MICBIAS, 18 MICIN, 19 RLINEIN, 20 LLINEIN, 21 MODE, 22 CSB, 23 SDIN, 24 SCLK, 25 XTI/MCLK, 26 XTO, 27 DCVDD, 28 DGND

## WM9713L
designator U?, comment WM9714LGEFL
footprint QFN50P700X700X80-49AV (QFN, 48-Leads, Body 7x7mm, Pitch 0.5mm, NSC Recommended)
pins: 1 DBVDD, 2 MCLKA, 3 MCLKB, 4 DGND1, 5 SDATA_OUT, 6 BITCLK, 7 DGND2, 8 SDATA_IN, 9 DCVDD, 10 SYNC, 11 RESTB, 12 AUX4, 13 AVDD2, 14 NC, 15 NC, 16 NC, 17 NC, 18 AGND3, 19 PCBEEP, 20 MONO_IN, 21 MIC1, 22 MICCM, 23 LINEL, 24 LINER, 25 AVDD1, 26 AGND1, 27 Vref, 28 MICBIAS, 29 MIC2A/AUX1, 30 MIC2B/AUX2, 31 MONO, 32 CAP2, 33 OUT4, 34 SPKGND, 35 SPKL, 36 SPKR, 37 OUT3, 38 SPKVDD, 39 HPOUTL, 40 HPGND, 41 HPOUTR, 42 AGND2, 43 HPVDD, 44 GPIO1/PCMCLK, 45 GPIO2/RQ, 46 GPIO3/PCMFS, 47 GPIO4/PCMDAC, 48 GPIO5/PCMADC, 49 GNDPADDLE

## WM9714L
designator U?
AC97解码
footprint QFN50P700X700X80-49AV (QFN, 48-Leads, Body 7x7mm, Pitch 0.5mm, NSC Recommended)
pins: 1 DBVDD, 2 MCLKA, 3 MCLKB/GPIO6/(ADA/MASK), 4 DGND1, 5 SDATA_OUT, 6 BITCLK, 7 DGND2, 8 SDATA_IN, 9 DCVDD, 10 SYNC, 11 RESTB/GPIO7, 12 AUX4/GPIO8/(S/PDIF), 13 AVDD2, 14 NC, 15 NC, 16 NC, 17 NC, 18 AGND3, 19 PCBEEP, 20 MONO_IN, 21 MIC1, 22 MICCM, 23 LINEL, 24 LINER, 25 AVDD1, 26 AGND1, 27 Vref, 28 MICBIAS, 29 MIC2A/COMP1/AUX1, 30 MIC2B/COMP2/AUX2, 31 MONO, 32 CAP2, 33 OUT4, 34 SPKGND, 35 SPKL, 36 SPKR, 37 OUT3, 38 SPKVDD, 39 HPL, 40 HPGND, 41 HPR, 42 AGND2, 43 HPVDD, 44 GPIO1/PCMCLK, 45 GPIO2/IRQ, 46 GPIO3/PCMFS, 47 GPIO4/ADA/MASK/PCMDAC, 48 GPIO5/S/PDIF/PCMADC, 49 GNDPADDLE

## WM-G-MR-09
designator U?, comment WM_G_MR_09
无线网卡模块
footprint LCC65-WFI
pins: 1 GND, 2 RF PORT, 3 GND, 4 NC, 5 SD_D1, 6 SCLK, 7 ECSn, 8 GND, 9 VDD_SHI, 10 GPIO_6, 11 GPIO_5, 12 SD_D3, 13 GPIO_2, 14 SD_CLK, 15 GPIO_4, 16 GPIO_1, 17 VDD_18, 18 VDD_12, 19 GND, 20 SD_CMD, 21 SD_D0, 22 SD_D2, 23 IF_SEL_1, 24 IF_SEL_2, 25 VDD18A, 26 GND, 27 VDD_33, 28 VDD_33, 29 BT_STATE, 30 WL_ACTIVE, 31 PDn, 32 RESETn, 33 BT_PRIORITY, 34 GPIO_0, 35 SLEEP_CLK, 36 PW_SEL, 37 GND, 38 GND, 39 GND, 40 GND

## XC6219B
designator U?, comment XC6219B121MR
LDO降压稳压芯片
footprint SOT-25
pins: 1 VIN (power), 2 GND (power), 3 CE (power), 4 NC (power), 5 VOUT (power)

## XC9216A
designator U?, comment XC9216A13CMR
开关式降压稳压器
footprint SOT-25
pins: 1 Vin "裸焊盘", 2 GND "裸焊盘", 3 CE/MODE "裸焊盘", 4 Vout "裸焊盘", 5 LX "裸焊盘"